# EAGLE library part PIC16F1455 (library custom)
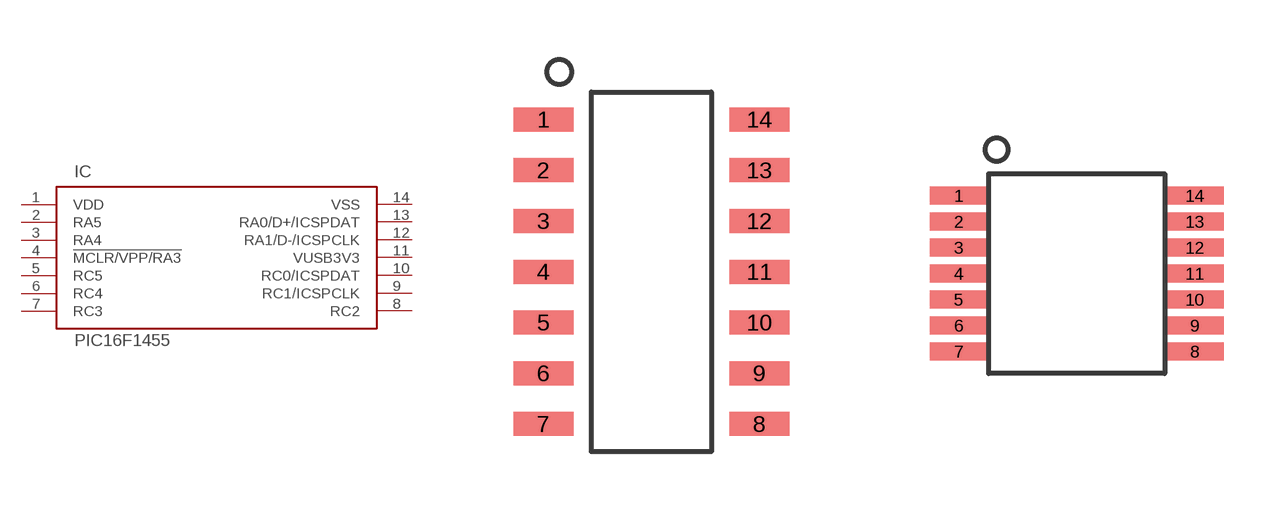
[diagram p0: symbol with the pads of SOIC-14; footprints SOIC-14, TSSOP-14]

Designator prefix IC

## PIC16F1455SOIC-14  [SOIC-14]
1  VDD  pwr
2  RA5
3  RA4
4  !MCLR/VPP/RA3
5  RC5
6  RC4
7  RC3
8  RC2
9  RC1/ICSPCLK
10  RC0/ICSPDAT
11  VUSB3V3
12  RA1/D-/ICSPCLK
13  RA0/D+/ICSPDAT
14  VSS  pwr

## PIC16F1455TSSOP-14  [TSSOP-14]
Pads as for SOIC-14

## Footprint SOIC-14 (pad centres in mm)
smd 1.5 x 0.6: 1 -2.7,3.81; 2 -2.7,2.54; 3 -2.7,1.27; 4 -2.7,0; 5 -2.7,-1.27; 6 -2.7,-2.54; 7 -2.7,-3.81; 8 2.7,-3.81; 9 2.7,-2.54; 10 2.7,-1.27; 11 2.7,0; 12 2.7,1.27; 13 2.7,2.54; 14 2.7,3.81

## Footprint TSSOP-14 (pad centres in mm)
smd 1.45 x 0.45: 1 -2.95,1.95; 2 -2.95,1.3; 3 -2.95,0.65; 4 -2.95,0; 5 -2.95,-0.65; 6 -2.95,-1.3; 7 -2.95,-1.95; 8 2.95,-1.95; 9 2.95,-1.3; 10 2.95,-0.65; 11 2.95,0; 12 2.95,0.65; 13 2.95,1.3; 14 2.95,1.95